# Altium footprint library Connector_Dsub.PcbLib: 104 footprints (part 5 of 7)
Each footprint in its own frame and in the unit in brackets; x right, y up, seen from the top. Pads: shape width x height; smd on the part's side, far side on the other; paste and mask are expansions set on the pad; w line width, h text height; cw(c..) or ccw(c..) is an arc to the next point about the centre after c.
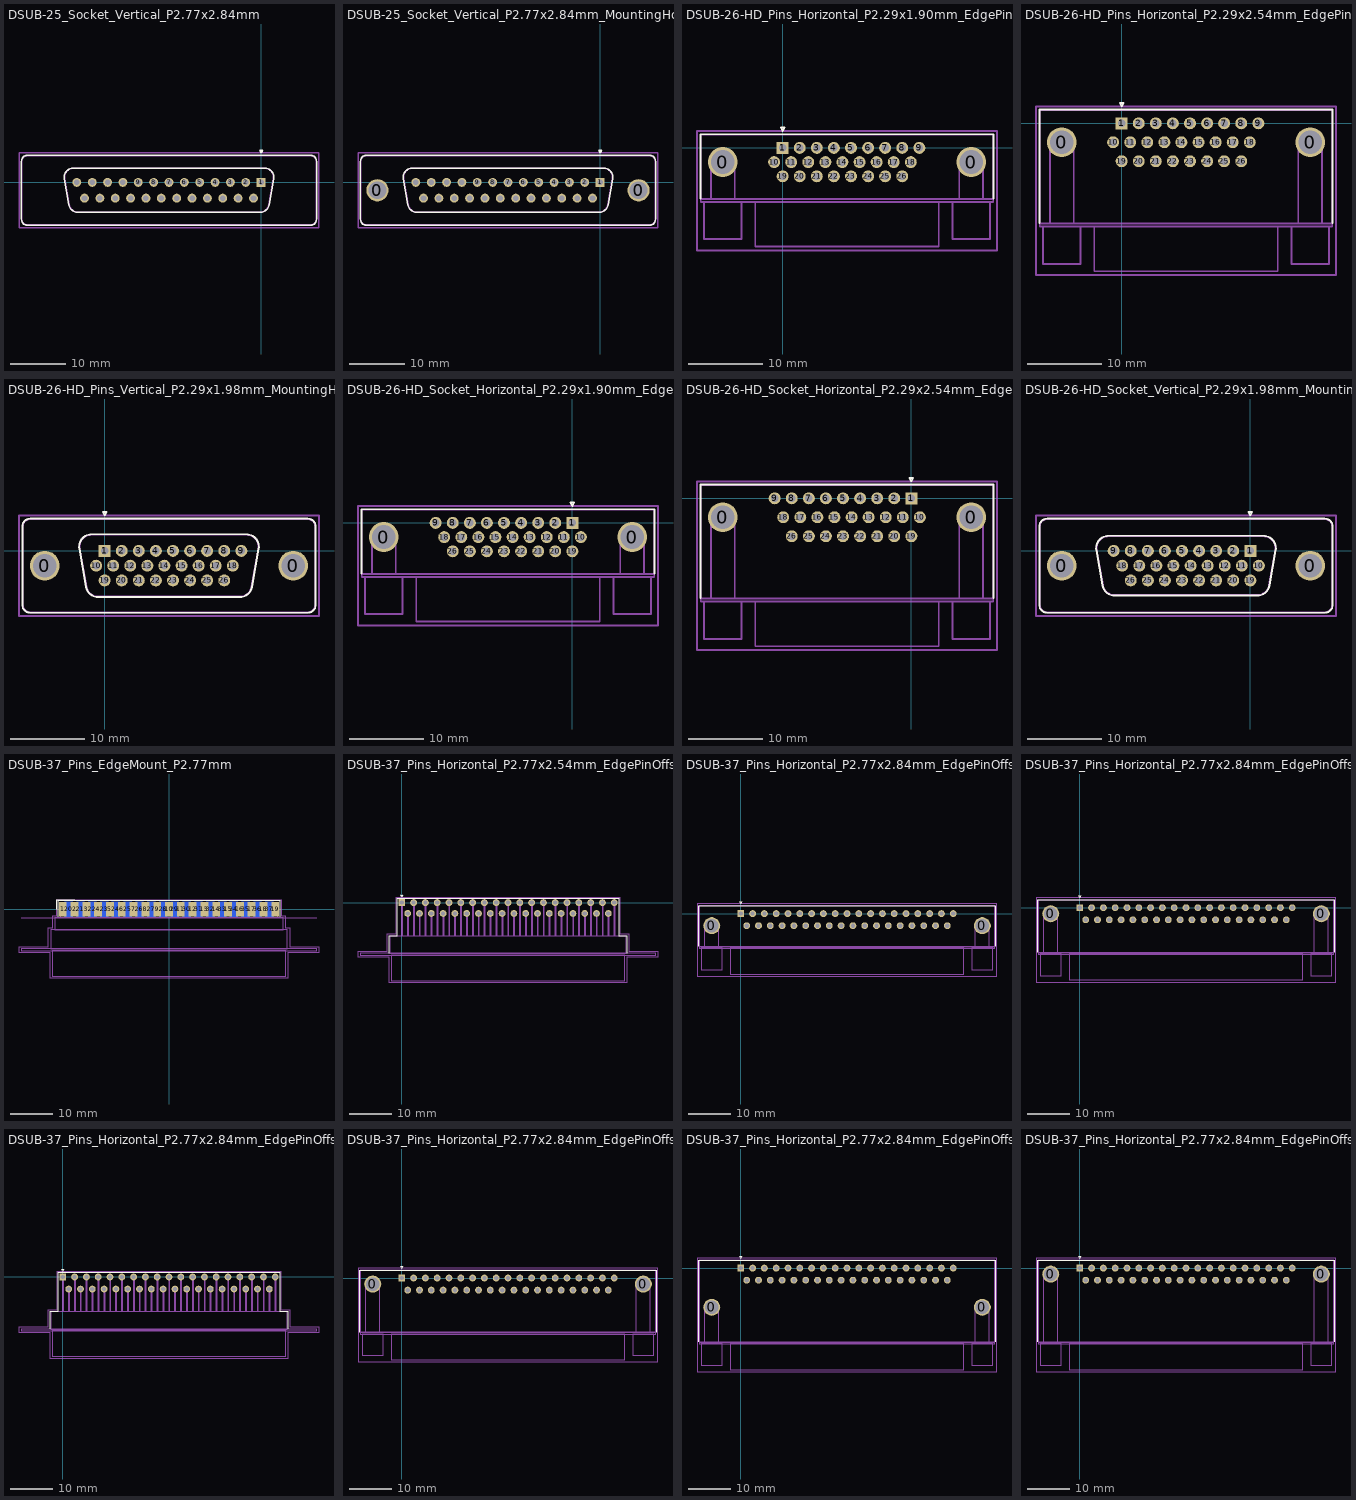
[diagram p4: the footprints below, top view; thin cyan lines are the x and y axes]

## DSUB-25_Socket_Vertical_P2.77x2.84mm [mm]
pads (25):
  rect 1.6x1.6 hole 1: 1(0,0)
  round 1.6 hole 1: 2(-2.77,0) 3(-5.54,0) 4(-8.31,0) 5(-11.08,0) 6(-13.85,0) 7(-16.62,0) 8(-19.39,0) 9(-22.16,0) 10(-24.93,0) 11(-27.7,0) 12(-30.47,0) 13(-33.24,0) 14(-1.385,-2.84) 15(-4.155,-2.84) 16(-6.925,-2.84) 17(-9.695,-2.84) 18(-12.465,-2.84) 19(-15.235,-2.84) 20(-18.005,-2.84) 21(-20.775,-2.84) 22(-23.545,-2.84) 23(-26.315,-2.84) 24(-29.085,-2.84) 25(-31.855,-2.84)
F.SilkS:
  lines w0.254: -43.23,-6.67 -43.23,3.83 cw(c-42.17,3.83) -42.17,4.89 8.93,4.89 cw(c8.93,3.83) 9.99,3.83 9.99,-6.67 cw(c8.93,-6.67) 8.93,-7.73 -42.17,-7.73 cw(c-42.17,-6.67) -43.23,-6.67 ; -35.486,0.642 -34.658,-4.058 ccw(c-33.023,-3.77) -33.023,-5.43 -0.217,-5.43 ccw(c-0.217,-3.77) 1.418,-4.058 2.246,0.642 ccw(c0.612,0.93) 0.612,2.59 -33.852,2.59 ccw(c-33.852,0.93) -35.486,0.642 ; -0.25,5.784 0.25,5.784 0,5.351 -0.25,5.784
F.Fab:
  lines w0.254: -43.17,-6.67 -43.17,3.83 cw(c-42.17,3.83) -42.17,4.83 8.93,4.83 cw(c8.93,3.83) 9.93,3.83 9.93,-6.67 cw(c8.93,-6.67) 8.93,-7.67 -42.17,-7.67 cw(c-42.17,-6.67) -43.17,-6.67 ; -35.439,0.652 -34.61,-4.048 ccw(c-33.034,-3.77) -33.034,-5.37 -0.206,-5.37 ccw(c-0.206,-3.77) 1.37,-4.048 2.199,0.652 ccw(c0.623,0.93) 0.623,2.53 -33.863,2.53 ccw(c-33.863,0.93) -35.439,0.652
  text "'.Designator'" at -20.667,-2.26 h1
F.CrtYd:
  lines w0.254: -43.67,-8.17 -43.67,5.33 10.43,5.33 10.43,-8.17 -43.67,-8.17

## DSUB-25_Socket_Vertical_P2.77x2.84mm_MountingHoles [mm]
pads (27):
  round 4 hole 3.2: 0(-40.17,-1.42) 0(6.93,-1.42)
  rect 1.6x1.6 hole 1: 1(0,0)
  round 1.6 hole 1: 2(-2.77,0) 3(-5.54,0) 4(-8.31,0) 5(-11.08,0) 6(-13.85,0) 7(-16.62,0) 8(-19.39,0) 9(-22.16,0) 10(-24.93,0) 11(-27.7,0) 12(-30.47,0) 13(-33.24,0) 14(-1.385,-2.84) 15(-4.155,-2.84) 16(-6.925,-2.84) 17(-9.695,-2.84) 18(-12.465,-2.84) 19(-15.235,-2.84) 20(-18.005,-2.84) 21(-20.775,-2.84) 22(-23.545,-2.84) 23(-26.315,-2.84) 24(-29.085,-2.84) 25(-31.855,-2.84)
F.SilkS:
  lines w0.254: -43.23,-6.67 -43.23,3.83 cw(c-42.17,3.83) -42.17,4.89 8.93,4.89 cw(c8.93,3.83) 9.99,3.83 9.99,-6.67 cw(c8.93,-6.67) 8.93,-7.73 -42.17,-7.73 cw(c-42.17,-6.67) -43.23,-6.67 ; -35.486,0.642 -34.658,-4.058 ccw(c-33.023,-3.77) -33.023,-5.43 -0.217,-5.43 ccw(c-0.217,-3.77) 1.418,-4.058 2.246,0.642 ccw(c0.612,0.93) 0.612,2.59 -33.852,2.59 ccw(c-33.852,0.93) -35.486,0.642 ; -0.25,5.784 0.25,5.784 0,5.351 -0.25,5.784
F.Fab:
  lines w0.254: -43.17,-6.67 -43.17,3.83 cw(c-42.17,3.83) -42.17,4.83 8.93,4.83 cw(c8.93,3.83) 9.93,3.83 9.93,-6.67 cw(c8.93,-6.67) 8.93,-7.67 -42.17,-7.67 cw(c-42.17,-6.67) -43.17,-6.67 ; -35.439,0.652 -34.61,-4.048 ccw(c-33.034,-3.77) -33.034,-5.37 -0.206,-5.37 ccw(c-0.206,-3.77) 1.37,-4.048 2.199,0.652 ccw(c0.623,0.93) 0.623,2.53 -33.863,2.53 ccw(c-33.863,0.93) -35.439,0.652
  text "'.Designator'" at -20.667,-2.26 h1
F.CrtYd:
  lines w0.254: -43.67,-8.17 -43.67,5.33 10.43,5.33 10.43,-8.17 -43.67,-8.17

## DSUB-26-HD_Pins_Horizontal_P2.29x1.90mm_EdgePinOffset3.03mm_Housed_MountingHolesOffset4.94mm [mm]
pads (28):
  round 4 hole 3.2: 0(-8.025,-1.89) 0(25.275,-1.89)
  rect 1.6x1.6 hole 1: 1(0,0)
  round 1.6 hole 1: 2(2.29,0) 3(4.58,0) 4(6.87,0) 5(9.16,0) 6(11.45,0) 7(13.74,0) 8(16.03,0) 9(18.32,0) 10(-1.145,-1.9) 11(1.145,-1.9) 12(3.435,-1.9) 13(5.725,-1.9) 14(8.015,-1.9) 15(10.305,-1.9) 16(12.595,-1.9) 17(14.885,-1.9) 18(17.175,-1.9) 19(0,-3.8) 20(2.29,-3.8) 21(4.58,-3.8) 22(6.87,-3.8) 23(9.16,-3.8) 24(11.45,-3.8) 25(13.74,-3.8) 26(16.03,-3.8)
F.SilkS:
  lines w0.254: -11.035,-6.77 -11.035,1.83 28.285,1.83 28.285,-6.77 ; -0.25,2.724 0.25,2.724 0,2.291 -0.25,2.724
F.Fab:
  lines w0.254: -9.625,-6.83 -9.625,-1.89 cw(c-8.025,-1.89) -6.425,-1.89 -6.425,-6.83 ; 23.675,-6.83 23.675,-1.89 cw(c25.275,-1.89) 26.875,-1.89 26.875,-6.83 ; -10.975,-6.83 -10.975,1.77 28.225,1.77 28.225,-6.83 ; -10.975,-6.83 -10.975,-7.23 28.225,-7.23 28.225,-6.83 ; -10.975,-6.83 28.225,-6.83 ; -10.975,-6.83 28.225,-6.83 ; -10.525,-12.23 -10.525,-7.23 -5.525,-7.23 -5.525,-12.23 -10.525,-12.23 ; -3.675,-13.23 -3.675,-7.23 20.925,-7.23 20.925,-13.23 -3.675,-13.23 ; 22.775,-12.23 22.775,-7.23 27.775,-7.23 27.775,-12.23 22.775,-12.23
  text "'.Designator'" at 4.578,-11.07 h1
F.CrtYd:
  lines w0.254: -11.48,-13.73 -11.48,2.27 28.73,2.27 28.73,-13.73 -11.48,-13.73

## DSUB-26-HD_Pins_Horizontal_P2.29x2.54mm_EdgePinOffset8.35mm_Housed_MountingHolesOffset10.89mm [mm]
pads (28):
  round 4 hole 3.2: 0(-8.025,-2.54) 0(25.275,-2.54)
  rect 1.6x1.6 hole 1: 1(0,0)
  round 1.6 hole 1: 2(2.29,0) 3(4.58,0) 4(6.87,0) 5(9.16,0) 6(11.45,0) 7(13.74,0) 8(16.03,0) 9(18.32,0) 10(-1.145,-2.54) 11(1.145,-2.54) 12(3.435,-2.54) 13(5.725,-2.54) 14(8.015,-2.54) 15(10.305,-2.54) 16(12.595,-2.54) 17(14.885,-2.54) 18(17.175,-2.54) 19(0,-5.08) 20(2.29,-5.08) 21(4.58,-5.08) 22(6.87,-5.08) 23(9.16,-5.08) 24(11.45,-5.08) 25(13.74,-5.08) 26(16.03,-5.08)
F.SilkS:
  lines w0.254: -11.035,-13.37 -11.035,1.83 28.285,1.83 28.285,-13.37 ; -0.25,2.724 0.25,2.724 0,2.291 -0.25,2.724
F.Fab:
  lines w0.254: -9.625,-13.43 -9.625,-2.54 cw(c-8.025,-2.54) -6.425,-2.54 -6.425,-13.43 ; 23.675,-13.43 23.675,-2.54 cw(c25.275,-2.54) 26.875,-2.54 26.875,-13.43 ; -10.975,-13.43 -10.975,1.77 28.225,1.77 28.225,-13.43 ; -10.975,-13.43 -10.975,-13.83 28.225,-13.83 28.225,-13.43 ; -10.975,-13.43 28.225,-13.43 ; -10.975,-13.43 28.225,-13.43 ; -10.525,-18.83 -10.525,-13.83 -5.525,-13.83 -5.525,-18.83 -10.525,-18.83 ; -3.675,-19.83 -3.675,-13.83 20.925,-13.83 20.925,-19.83 -3.675,-19.83 ; 22.775,-18.83 22.775,-13.83 27.775,-13.83 27.775,-18.83 22.775,-18.83
  text "'.Designator'" at 4.578,-17.67 h1
F.CrtYd:
  lines w0.254: -11.48,-20.33 -11.48,2.27 28.73,2.27 28.73,-20.33 -11.48,-20.33

## DSUB-26-HD_Pins_Vertical_P2.29x1.98mm_MountingHoles [mm]
pads (28):
  round 4 hole 3.2: 0(-8.025,-1.98) 0(25.275,-1.98)
  rect 1.6x1.6 hole 1: 1(0,0)
  round 1.6 hole 1: 2(2.29,0) 3(4.58,0) 4(6.87,0) 5(9.16,0) 6(11.45,0) 7(13.74,0) 8(16.03,0) 9(18.32,0) 10(-1.145,-1.98) 11(1.145,-1.98) 12(3.435,-1.98) 13(5.725,-1.98) 14(8.015,-1.98) 15(10.305,-1.98) 16(12.595,-1.98) 17(14.885,-1.98) 18(17.175,-1.98) 19(0,-3.96) 20(2.29,-3.96) 21(4.58,-3.96) 22(6.87,-3.96) 23(9.16,-3.96) 24(11.45,-3.96) 25(13.74,-3.96) 26(16.03,-3.96)
F.SilkS:
  lines w0.254: -11.035,-7.23 -11.035,3.27 cw(c-9.975,3.27) -9.975,4.33 27.225,4.33 cw(c27.225,3.27) 28.285,3.27 28.285,-7.23 cw(c27.225,-7.23) 27.225,-8.29 -9.975,-8.29 cw(c-9.975,-7.23) -11.035,-7.23 ; -3.391,0.282 -2.492,-4.818 ccw(c-0.857,-4.53) -0.857,-6.19 18.107,-6.19 ccw(c18.107,-4.53) 19.742,-4.818 20.641,0.282 ccw(c19.007,0.57) 19.007,2.23 -1.757,2.23 ccw(c-1.757,0.57) -3.391,0.282 ; -0.25,5.224 0.25,5.224 0,4.791 -0.25,5.224
F.Fab:
  lines w0.254: -10.975,-7.23 -10.975,3.27 cw(c-9.975,3.27) -9.975,4.27 27.225,4.27 cw(c27.225,3.27) 28.225,3.27 28.225,-7.23 cw(c27.225,-7.23) 27.225,-8.23 -9.975,-8.23 cw(c-9.975,-7.23) -10.975,-7.23 ; -3.344,0.292 -2.445,-4.808 ccw(c-0.869,-4.53) -0.869,-6.13 18.119,-6.13 ccw(c18.119,-4.53) 19.695,-4.808 20.594,0.292 ccw(c19.018,0.57) 19.018,2.17 -1.768,2.17 ccw(c-1.768,0.57) -3.344,0.292
  text "'.Designator'" at 4.578,-2.82 h1
F.CrtYd:
  lines w0.254: -11.48,-8.73 -11.48,4.77 28.73,4.77 28.73,-8.73 -11.48,-8.73

## DSUB-26-HD_Socket_Horizontal_P2.29x1.90mm_EdgePinOffset3.03mm_Housed_MountingHolesOffset4.94mm [mm]
pads (28):
  round 4 hole 3.2: 0(-25.275,-1.89) 0(8.025,-1.89)
  rect 1.6x1.6 hole 1: 1(0,0)
  round 1.6 hole 1: 2(-2.29,0) 3(-4.58,0) 4(-6.87,0) 5(-9.16,0) 6(-11.45,0) 7(-13.74,0) 8(-16.03,0) 9(-18.32,0) 10(1.145,-1.9) 11(-1.145,-1.9) 12(-3.435,-1.9) 13(-5.725,-1.9) 14(-8.015,-1.9) 15(-10.305,-1.9) 16(-12.595,-1.9) 17(-14.885,-1.9) 18(-17.175,-1.9) 19(0,-3.8) 20(-2.29,-3.8) 21(-4.58,-3.8) 22(-6.87,-3.8) 23(-9.16,-3.8) 24(-11.45,-3.8) 25(-13.74,-3.8) 26(-16.03,-3.8)
F.SilkS:
  lines w0.254: -28.285,-6.77 -28.285,1.83 11.035,1.83 11.035,-6.77 ; -0.25,2.724 0.25,2.724 0,2.291 -0.25,2.724
F.Fab:
  lines w0.254: -26.875,-6.83 -26.875,-1.89 cw(c-25.275,-1.89) -23.675,-1.89 -23.675,-6.83 ; 6.425,-6.83 6.425,-1.89 cw(c8.025,-1.89) 9.625,-1.89 9.625,-6.83 ; -28.225,-6.83 -28.225,1.77 10.975,1.77 10.975,-6.83 ; -28.225,-6.83 -28.225,-7.23 10.975,-7.23 10.975,-6.83 ; -28.225,-6.83 10.975,-6.83 ; -28.225,-6.83 10.975,-6.83 ; -27.775,-12.23 -27.775,-7.23 -22.775,-7.23 -22.775,-12.23 -27.775,-12.23 ; -20.925,-13.23 -20.925,-7.23 3.675,-7.23 3.675,-13.23 -20.925,-13.23 ; 5.525,-12.23 5.525,-7.23 10.525,-7.23 10.525,-12.23 5.525,-12.23
  text "'.Designator'" at -12.672,-11.07 h1
F.CrtYd:
  lines w0.254: -28.73,-13.73 -28.73,2.27 11.48,2.27 11.48,-13.73 -28.73,-13.73

## DSUB-26-HD_Socket_Horizontal_P2.29x2.54mm_EdgePinOffset8.35mm_Housed_MountingHolesOffset10.89mm [mm]
pads (28):
  round 4 hole 3.2: 0(-25.275,-2.54) 0(8.025,-2.54)
  rect 1.6x1.6 hole 1: 1(0,0)
  round 1.6 hole 1: 2(-2.29,0) 3(-4.58,0) 4(-6.87,0) 5(-9.16,0) 6(-11.45,0) 7(-13.74,0) 8(-16.03,0) 9(-18.32,0) 10(1.145,-2.54) 11(-1.145,-2.54) 12(-3.435,-2.54) 13(-5.725,-2.54) 14(-8.015,-2.54) 15(-10.305,-2.54) 16(-12.595,-2.54) 17(-14.885,-2.54) 18(-17.175,-2.54) 19(0,-5.08) 20(-2.29,-5.08) 21(-4.58,-5.08) 22(-6.87,-5.08) 23(-9.16,-5.08) 24(-11.45,-5.08) 25(-13.74,-5.08) 26(-16.03,-5.08)
F.SilkS:
  lines w0.254: -28.285,-13.37 -28.285,1.83 11.035,1.83 11.035,-13.37 ; -0.25,2.724 0.25,2.724 0,2.291 -0.25,2.724
F.Fab:
  lines w0.254: -26.875,-13.43 -26.875,-2.54 cw(c-25.275,-2.54) -23.675,-2.54 -23.675,-13.43 ; 6.425,-13.43 6.425,-2.54 cw(c8.025,-2.54) 9.625,-2.54 9.625,-13.43 ; -28.225,-13.43 -28.225,1.77 10.975,1.77 10.975,-13.43 ; -28.225,-13.43 -28.225,-13.83 10.975,-13.83 10.975,-13.43 ; -28.225,-13.43 10.975,-13.43 ; -28.225,-13.43 10.975,-13.43 ; -27.775,-18.83 -27.775,-13.83 -22.775,-13.83 -22.775,-18.83 -27.775,-18.83 ; -20.925,-19.83 -20.925,-13.83 3.675,-13.83 3.675,-19.83 -20.925,-19.83 ; 5.525,-18.83 5.525,-13.83 10.525,-13.83 10.525,-18.83 5.525,-18.83
  text "'.Designator'" at -12.672,-17.67 h1
F.CrtYd:
  lines w0.254: -28.73,-20.33 -28.73,2.27 11.48,2.27 11.48,-20.33 -28.73,-20.33

## DSUB-26-HD_Socket_Vertical_P2.29x1.98mm_MountingHoles [mm]
pads (28):
  round 4 hole 3.2: 0(-25.275,-1.98) 0(8.025,-1.98)
  rect 1.6x1.6 hole 1: 1(0,0)
  round 1.6 hole 1: 2(-2.29,0) 3(-4.58,0) 4(-6.87,0) 5(-9.16,0) 6(-11.45,0) 7(-13.74,0) 8(-16.03,0) 9(-18.32,0) 10(1.145,-1.98) 11(-1.145,-1.98) 12(-3.435,-1.98) 13(-5.725,-1.98) 14(-8.015,-1.98) 15(-10.305,-1.98) 16(-12.595,-1.98) 17(-14.885,-1.98) 18(-17.175,-1.98) 19(0,-3.96) 20(-2.29,-3.96) 21(-4.58,-3.96) 22(-6.87,-3.96) 23(-9.16,-3.96) 24(-11.45,-3.96) 25(-13.74,-3.96) 26(-16.03,-3.96)
F.SilkS:
  lines w0.254: -28.285,-7.23 -28.285,3.27 cw(c-27.225,3.27) -27.225,4.33 9.975,4.33 cw(c9.975,3.27) 11.035,3.27 11.035,-7.23 cw(c9.975,-7.23) 9.975,-8.29 -27.225,-8.29 cw(c-27.225,-7.23) -28.285,-7.23 ; -20.641,0.082 -19.813,-4.618 ccw(c-18.178,-4.33) -18.178,-5.99 0.928,-5.99 ccw(c0.928,-4.33) 2.563,-4.618 3.391,0.082 ccw(c1.757,0.37) 1.757,2.03 -19.007,2.03 ccw(c-19.007,0.37) -20.641,0.082 ; -0.25,5.224 0.25,5.224 0,4.791 -0.25,5.224
F.Fab:
  lines w0.254: -28.225,-7.23 -28.225,3.27 cw(c-27.225,3.27) -27.225,4.27 9.975,4.27 cw(c9.975,3.27) 10.975,3.27 10.975,-7.23 cw(c9.975,-7.23) 9.975,-8.23 -27.225,-8.23 cw(c-27.225,-7.23) -28.225,-7.23 ; -20.594,0.092 -19.765,-4.608 ccw(c-18.189,-4.33) -18.189,-5.93 0.939,-5.93 ccw(c0.939,-4.33) 2.515,-4.608 3.344,0.092 ccw(c1.768,0.37) 1.768,1.97 -19.018,1.97 ccw(c-19.018,0.37) -20.594,0.092
  text "'.Designator'" at -12.672,-2.82 h1
F.CrtYd:
  lines w0.254: -28.73,-8.73 -28.73,4.77 11.48,4.77 11.48,-8.73 -28.73,-8.73

## DSUB-37_Pins_EdgeMount_P2.77mm [mm]
pads (37):
  rect 1.847x3.48 smd: 1(-24.93,0) 2(-22.16,0) 3(-19.39,0) 4(-16.62,0) 5(-13.85,0) 6(-11.08,0) 7(-8.31,0) 8(-5.54,0) 9(-2.77,0) 10(0,0) 11(2.77,0) 12(5.54,0) 13(8.31,0) 14(11.08,0) 15(13.85,0) 16(16.62,0) 17(19.39,0) 18(22.16,0) 19(24.93,0)
  rect 1.847x3.48 smd far side: 20(-23.545,0) 21(-20.775,0) 22(-18.005,0) 23(-15.235,0) 24(-12.465,0) 25(-9.695,0) 26(-6.925,0) 27(-4.155,0) 28(-1.385,0) 29(1.385,0) 30(4.155,0) 31(6.925,0) 32(9.695,0) 33(12.465,0) 34(15.235,0) 35(18.005,0) 36(20.775,0) 37(23.545,0)
F.SilkS:
  lines w0.254: -26.353,0 -26.353,2.24 -22.16,2.24 ; -26.113,-1.74 -26.113,2 26.113,2 26.113,-1.74
F.Fab:
  lines w0.254: -34.7,-9.69 -34.7,-9.29 34.7,-9.29 34.7,-9.69 -34.7,-9.69 ; -27.8,-9.29 -27.8,-4.79 27.8,-4.79 27.8,-9.29 -27.8,-9.29 ; -27.4,-15.69 -27.4,-9.69 27.4,-9.69 27.4,-15.69 -27.4,-15.69 ; -26.8,-4.79 -26.8,-1.99 26.8,-1.99 26.8,-4.79 -26.8,-4.79 ; -25.53,-1.99 -25.53,0.91 -24.33,0.91 -24.33,-1.99 -25.53,-1.99 ; -22.76,-1.99 -22.76,0.91 -21.56,0.91 -21.56,-1.99 -22.76,-1.99 ; -19.99,-1.99 -19.99,0.91 -18.79,0.91 -18.79,-1.99 -19.99,-1.99 ; -17.22,-1.99 -17.22,0.91 -16.02,0.91 -16.02,-1.99 -17.22,-1.99 ; -14.45,-1.99 -14.45,0.91 -13.25,0.91 -13.25,-1.99 -14.45,-1.99 ; -11.68,-1.99 -11.68,0.91 -10.48,0.91 -10.48,-1.99 -11.68,-1.99 ; -8.91,-1.99 -8.91,0.91 -7.71,0.91 -7.71,-1.99 -8.91,-1.99 ; -6.14,-1.99 -6.14,0.91 -4.94,0.91 -4.94,-1.99 -6.14,-1.99 ; -3.37,-1.99 -3.37,0.91 -2.17,0.91 -2.17,-1.99 -3.37,-1.99 ; -0.6,-1.99 -0.6,0.91 0.6,0.91 0.6,-1.99 -0.6,-1.99 ; 2.17,-1.99 2.17,0.91 3.37,0.91 3.37,-1.99 2.17,-1.99 ; 4.94,-1.99 4.94,0.91 6.14,0.91 6.14,-1.99 4.94,-1.99 ; 7.71,-1.99 7.71,0.91 8.91,0.91 8.91,-1.99 7.71,-1.99 ; 10.48,-1.99 10.48,0.91 11.68,0.91 11.68,-1.99 10.48,-1.99 ; 13.25,-1.99 13.25,0.91 14.45,0.91 14.45,-1.99 13.25,-1.99 ; 16.02,-1.99 16.02,0.91 17.22,0.91 17.22,-1.99 16.02,-1.99 ; 18.79,-1.99 18.79,0.91 19.99,0.91 19.99,-1.99 18.79,-1.99 ; 21.56,-1.99 21.56,0.91 22.76,0.91 22.76,-1.99 21.56,-1.99 ; 24.33,-1.99 24.33,0.91 25.53,0.91 25.53,-1.99 24.33,-1.99
  text "'.Designator'" at -4.047,-4.23 h1
B.Fab:
  lines w0.254: -24.145,-1.99 -24.145,0.91 -22.945,0.91 -22.945,-1.99 -24.145,-1.99 ; -21.375,-1.99 -21.375,0.91 -20.175,0.91 -20.175,-1.99 -21.375,-1.99 ; -18.605,-1.99 -18.605,0.91 -17.405,0.91 -17.405,-1.99 -18.605,-1.99 ; -15.835,-1.99 -15.835,0.91 -14.635,0.91 -14.635,-1.99 -15.835,-1.99 ; -13.065,-1.99 -13.065,0.91 -11.865,0.91 -11.865,-1.99 -13.065,-1.99 ; -10.295,-1.99 -10.295,0.91 -9.095,0.91 -9.095,-1.99 -10.295,-1.99 ; -7.525,-1.99 -7.525,0.91 -6.325,0.91 -6.325,-1.99 -7.525,-1.99 ; -4.755,-1.99 -4.755,0.91 -3.555,0.91 -3.555,-1.99 -4.755,-1.99 ; -1.985,-1.99 -1.985,0.91 -0.785,0.91 -0.785,-1.99 -1.985,-1.99 ; 0.785,-1.99 0.785,0.91 1.985,0.91 1.985,-1.99 0.785,-1.99 ; 3.555,-1.99 3.555,0.91 4.755,0.91 4.755,-1.99 3.555,-1.99 ; 6.325,-1.99 6.325,0.91 7.525,0.91 7.525,-1.99 6.325,-1.99 ; 9.095,-1.99 9.095,0.91 10.295,0.91 10.295,-1.99 9.095,-1.99 ; 11.865,-1.99 11.865,0.91 13.065,0.91 13.065,-1.99 11.865,-1.99 ; 14.635,-1.99 14.635,0.91 15.835,0.91 15.835,-1.99 14.635,-1.99 ; 17.405,-1.99 17.405,0.91 18.605,0.91 18.605,-1.99 17.405,-1.99 ; 20.175,-1.99 20.175,0.91 21.375,0.91 21.375,-1.99 20.175,-1.99 ; 22.945,-1.99 22.945,0.91 24.145,0.91 24.145,-1.99 22.945,-1.99
F.CrtYd:
  lines w0.254: -35.2,-10.19 -35.2,-8.79 -28.3,-8.79 -28.3,-4.29 -27.3,-4.29 -27.3,-1.49 -26.36,-1.49 -26.36,2.25 26.36,2.25 26.36,-1.49 27.3,-1.49 27.3,-4.29 28.3,-4.29 28.3,-8.79 35.2,-8.79 35.2,-10.19 27.9,-10.19 27.9,-16.19 -27.9,-16.19 -27.9,-10.19 -35.2,-10.19
Dwgs.User:
  lines w0.254: -34.7,-1.99 34.7,-1.99
  text "PCB edge" at -31.423,-1.732 h0.5

## DSUB-37_Pins_Horizontal_P2.77x2.54mm_EdgePinOffset9.40mm [mm]
pads (37):
  rect 1.6x1.6 hole 1: 1(0,0)
  round 1.6 hole 1: 2(2.77,0) 3(5.54,0) 4(8.31,0) 5(11.08,0) 6(13.85,0) 7(16.62,0) 8(19.39,0) 9(22.16,0) 10(24.93,0) 11(27.7,0) 12(30.47,0) 13(33.24,0) 14(36.01,0) 15(38.78,0) 16(41.55,0) 17(44.32,0) 18(47.09,0) 19(49.86,0) 20(1.385,-2.54) 21(4.155,-2.54) 22(6.925,-2.54) 23(9.695,-2.54) 24(12.465,-2.54) 25(15.235,-2.54) 26(18.005,-2.54) 27(20.775,-2.54) 28(23.545,-2.54) 29(26.315,-2.54) 30(29.085,-2.54) 31(31.855,-2.54) 32(34.625,-2.54) 33(37.395,-2.54) 34(40.165,-2.54) 35(42.935,-2.54) 36(45.705,-2.54) 37(48.475,-2.54)
F.SilkS:
  lines w0.254: -2.93,-11.88 -2.93,-7.78 -1.06,-7.78 -1.06,1.06 50.92,1.06 50.92,-7.78 52.79,-7.78 52.79,-11.88 ; -0.25,1.754 0.25,1.754 0,1.321 -0.25,1.754
F.Fab:
  lines w0.254: -0.1,-7.84 -0.1,0 ; 0,-7.84 0,0 ; 0.1,-7.84 0.1,0 ; 1.285,-7.84 1.285,-2.54 ; 1.385,-7.84 1.385,-2.54 ; 1.485,-7.84 1.485,-2.54 ; 2.67,-7.84 2.67,0 ; 2.77,-7.84 2.77,0 ; 2.87,-7.84 2.87,0 ; 4.055,-7.84 4.055,-2.54 ; 4.155,-7.84 4.155,-2.54 ; 4.255,-7.84 4.255,-2.54 ; 5.44,-7.84 5.44,0 ; 5.54,-7.84 5.54,0 ; 5.64,-7.84 5.64,0 ; 6.825,-7.84 6.825,-2.54 ; 6.925,-7.84 6.925,-2.54 ; 7.025,-7.84 7.025,-2.54 ; 8.21,-7.84 8.21,0 ; 8.31,-7.84 8.31,0 ; 8.41,-7.84 8.41,0 ; 9.595,-7.84 9.595,-2.54 ; 9.695,-7.84 9.695,-2.54 ; 9.795,-7.84 9.795,-2.54 ; 10.98,-7.84 10.98,0 ; 11.08,-7.84 11.08,0 ; 11.18,-7.84 11.18,0 ; 12.365,-7.84 12.365,-2.54 ; 12.465,-7.84 12.465,-2.54 ; 12.565,-7.84 12.565,-2.54 ; 13.75,-7.84 13.75,0 ; 13.85,-7.84 13.85,0 ; 13.95,-7.84 13.95,0 ; 15.135,-7.84 15.135,-2.54 ; 15.235,-7.84 15.235,-2.54 ; 15.335,-7.84 15.335,-2.54 ; 16.52,-7.84 16.52,0 ; 16.62,-7.84 16.62,0 ; 16.72,-7.84 16.72,0 ; 17.905,-7.84 17.905,-2.54 ; 18.005,-7.84 18.005,-2.54 ; 18.105,-7.84 18.105,-2.54 ; 19.29,-7.84 19.29,0 ; 19.39,-7.84 19.39,0 ; 19.49,-7.84 19.49,0 ; 20.675,-7.84 20.675,-2.54 ; 20.775,-7.84 20.775,-2.54 ; 20.875,-7.84 20.875,-2.54 ; 22.06,-7.84 22.06,0 ; 22.16,-7.84 22.16,0 ; 22.26,-7.84 22.26,0 ; 23.445,-7.84 23.445,-2.54 ; 23.545,-7.84 23.545,-2.54 ; 23.645,-7.84 23.645,-2.54 ; 24.83,-7.84 24.83,0 ; 24.93,-7.84 24.93,0 ; 25.03,-7.84 25.03,0 ; 26.215,-7.84 26.215,-2.54 ; 26.315,-7.84 26.315,-2.54 ; 26.415,-7.84 26.415,-2.54 ; 27.6,-7.84 27.6,0 ; 27.7,-7.84 27.7,0 ; 27.8,-7.84 27.8,0 ; 28.985,-7.84 28.985,-2.54 ; 29.085,-7.84 29.085,-2.54 ; 29.185,-7.84 29.185,-2.54 ; 30.37,-7.84 30.37,0 ; 30.47,-7.84 30.47,0 ; 30.57,-7.84 30.57,0 ; 31.755,-7.84 31.755,-2.54 ; 31.855,-7.84 31.855,-2.54 ; 31.955,-7.84 31.955,-2.54 ; 33.14,-7.84 33.14,0 ; 33.24,-7.84 33.24,0 ; 33.34,-7.84 33.34,0 ; 34.525,-7.84 34.525,-2.54 ; 34.625,-7.84 34.625,-2.54 ; 34.725,-7.84 34.725,-2.54 ; 35.91,-7.84 35.91,0 ; 36.01,-7.84 36.01,0 ; 36.11,-7.84 36.11,0 ; 37.295,-7.84 37.295,-2.54 ; 37.395,-7.84 37.395,-2.54 ; 37.495,-7.84 37.495,-2.54 ; 38.68,-7.84 38.68,0 ; 38.78,-7.84 38.78,0 ; 38.88,-7.84 38.88,0 ; 40.065,-7.84 40.065,-2.54 ; 40.165,-7.84 40.165,-2.54 ; 40.265,-7.84 40.265,-2.54 ; 41.45,-7.84 41.45,0 ; 41.55,-7.84 41.55,0 ; 41.65,-7.84 41.65,0 ; 42.835,-7.84 42.835,-2.54 ; 42.935,-7.84 42.935,-2.54 ; 43.035,-7.84 43.035,-2.54 ; 44.22,-7.84 44.22,0 ; 44.32,-7.84 44.32,0 ; 44.42,-7.84 44.42,0 ; 45.605,-7.84 45.605,-2.54 ; 45.705,-7.84 45.705,-2.54 ; 45.805,-7.84 45.805,-2.54 ; 46.99,-7.84 46.99,0 ; 47.09,-7.84 47.09,0 ; 47.19,-7.84 47.19,0 ; 48.375,-7.84 48.375,-2.54 ; 48.475,-7.84 48.475,-2.54 ; 48.575,-7.84 48.575,-2.54 ; 49.76,-7.84 49.76,0 ; 49.86,-7.84 49.86,0 ; 49.96,-7.84 49.96,0 ; -9.77,-12.34 -9.77,-11.94 59.63,-11.94 59.63,-12.34 -9.77,-12.34 ; -2.87,-11.94 -2.87,-7.84 52.73,-7.84 52.73,-11.94 -2.87,-11.94 ; -2.47,-18.34 -2.47,-12.34 52.33,-12.34 52.33,-18.34 -2.47,-18.34
  text "'.Designator'" at 20.883,-16.18 h1
F.CrtYd:
  lines w0.254: -10.28,-12.84 -10.28,-11.44 -3.37,-11.44 -3.37,-7.34 -1.3,-7.34 -1.3,1.31 51.16,1.31 51.16,-7.34 53.23,-7.34 53.23,-11.44 60.13,-11.44 60.13,-12.84 52.83,-12.84 52.83,-18.84 -2.97,-18.84 -2.97,-12.84 -10.28,-12.84

## DSUB-37_Pins_Horizontal_P2.77x2.84mm_EdgePinOffset4.94mm_Housed_MountingHolesOffset4.94mm [mm]
pads (39):
  round 4 hole 3.2: 0(-6.82,-2.84) 0(56.68,-2.84)
  rect 1.6x1.6 hole 1: 1(0,0)
  round 1.6 hole 1: 2(2.77,0) 3(5.54,0) 4(8.31,0) 5(11.08,0) 6(13.85,0) 7(16.62,0) 8(19.39,0) 9(22.16,0) 10(24.93,0) 11(27.7,0) 12(30.47,0) 13(33.24,0) 14(36.01,0) 15(38.78,0) 16(41.55,0) 17(44.32,0) 18(47.09,0) 19(49.86,0) 20(1.385,-2.84) 21(4.155,-2.84) 22(6.925,-2.84) 23(9.695,-2.84) 24(12.465,-2.84) 25(15.235,-2.84) 26(18.005,-2.84) 27(20.775,-2.84) 28(23.545,-2.84) 29(26.315,-2.84) 30(29.085,-2.84) 31(31.855,-2.84) 32(34.625,-2.84) 33(37.395,-2.84) 34(40.165,-2.84) 35(42.935,-2.84) 36(45.705,-2.84) 37(48.475,-2.84)
F.SilkS:
  lines w0.254: -9.83,-7.72 -9.83,1.86 59.69,1.86 59.69,-7.72 ; -0.25,2.754 0.25,2.754 0,2.321 -0.25,2.754
F.Fab:
  lines w0.254: -8.42,-7.78 -8.42,-2.84 cw(c-6.82,-2.84) -5.22,-2.84 -5.22,-7.78 ; 55.08,-7.78 55.08,-2.84 cw(c56.68,-2.84) 58.28,-2.84 58.28,-7.78 ; -9.77,-7.78 -9.77,1.8 59.63,1.8 59.63,-7.78 ; -9.77,-7.78 -9.77,-8.18 59.63,-8.18 59.63,-7.78 ; -9.77,-7.78 59.63,-7.78 ; -9.77,-7.78 59.63,-7.78 ; -9.32,-13.18 -9.32,-8.18 -4.32,-8.18 -4.32,-13.18 -9.32,-13.18 ; -2.47,-14.18 -2.47,-8.18 52.33,-8.18 52.33,-14.18 -2.47,-14.18 ; 54.18,-13.18 54.18,-8.18 59.18,-8.18 59.18,-13.18 54.18,-13.18
  text "'.Designator'" at 20.883,-12.02 h1
F.CrtYd:
  lines w0.254: -10.28,-14.68 -10.28,2.31 60.13,2.31 60.13,-14.68 -10.28,-14.68

## DSUB-37_Pins_Horizontal_P2.77x2.84mm_EdgePinOffset7.70mm_Housed_MountingHolesOffset9.12mm [mm]
pads (39):
  round 4 hole 3.2: 0(-6.82,-1.42) 0(56.68,-1.42)
  rect 1.6x1.6 hole 1: 1(0,0)
  round 1.6 hole 1: 2(2.77,0) 3(5.54,0) 4(8.31,0) 5(11.08,0) 6(13.85,0) 7(16.62,0) 8(19.39,0) 9(22.16,0) 10(24.93,0) 11(27.7,0) 12(30.47,0) 13(33.24,0) 14(36.01,0) 15(38.78,0) 16(41.55,0) 17(44.32,0) 18(47.09,0) 19(49.86,0) 20(1.385,-2.84) 21(4.155,-2.84) 22(6.925,-2.84) 23(9.695,-2.84) 24(12.465,-2.84) 25(15.235,-2.84) 26(18.005,-2.84) 27(20.775,-2.84) 28(23.545,-2.84) 29(26.315,-2.84) 30(29.085,-2.84) 31(31.855,-2.84) 32(34.625,-2.84) 33(37.395,-2.84) 34(40.165,-2.84) 35(42.935,-2.84) 36(45.705,-2.84) 37(48.475,-2.84)
F.SilkS:
  lines w0.254: -9.83,-10.48 -9.83,1.86 59.69,1.86 59.69,-10.48 ; -0.25,2.754 0.25,2.754 0,2.321 -0.25,2.754
F.Fab:
  lines w0.254: -8.42,-10.54 -8.42,-1.42 cw(c-6.82,-1.42) -5.22,-1.42 -5.22,-10.54 ; 55.08,-10.54 55.08,-1.42 cw(c56.68,-1.42) 58.28,-1.42 58.28,-10.54 ; -9.77,-10.54 -9.77,1.8 59.63,1.8 59.63,-10.54 ; -9.77,-10.54 -9.77,-10.94 59.63,-10.94 59.63,-10.54 ; -9.77,-10.54 59.63,-10.54 ; -9.77,-10.54 59.63,-10.54 ; -9.32,-15.94 -9.32,-10.94 -4.32,-10.94 -4.32,-15.94 -9.32,-15.94 ; -2.47,-16.94 -2.47,-10.94 52.33,-10.94 52.33,-16.94 -2.47,-16.94 ; 54.18,-15.94 54.18,-10.94 59.18,-10.94 59.18,-15.94 54.18,-15.94
  text "'.Designator'" at 20.883,-14.78 h1
F.CrtYd:
  lines w0.254: -10.28,-17.44 -10.28,2.31 60.13,2.31 60.13,-17.44 -10.28,-17.44

## DSUB-37_Pins_Horizontal_P2.77x2.84mm_EdgePinOffset9.40mm [mm]
pads (37):
  rect 1.6x1.6 hole 1: 1(0,0)
  round 1.6 hole 1: 2(2.77,0) 3(5.54,0) 4(8.31,0) 5(11.08,0) 6(13.85,0) 7(16.62,0) 8(19.39,0) 9(22.16,0) 10(24.93,0) 11(27.7,0) 12(30.47,0) 13(33.24,0) 14(36.01,0) 15(38.78,0) 16(41.55,0) 17(44.32,0) 18(47.09,0) 19(49.86,0) 20(1.385,-2.84) 21(4.155,-2.84) 22(6.925,-2.84) 23(9.695,-2.84) 24(12.465,-2.84) 25(15.235,-2.84) 26(18.005,-2.84) 27(20.775,-2.84) 28(23.545,-2.84) 29(26.315,-2.84) 30(29.085,-2.84) 31(31.855,-2.84) 32(34.625,-2.84) 33(37.395,-2.84) 34(40.165,-2.84) 35(42.935,-2.84) 36(45.705,-2.84) 37(48.475,-2.84)
F.SilkS:
  lines w0.254: -2.93,-12.18 -2.93,-8.08 -1.06,-8.08 -1.06,1.06 50.92,1.06 50.92,-8.08 52.79,-8.08 52.79,-12.18 ; -0.25,1.754 0.25,1.754 0,1.321 -0.25,1.754
F.Fab:
  lines w0.254: -0.1,-8.14 -0.1,0 ; 0,-8.14 0,0 ; 0.1,-8.14 0.1,0 ; 1.285,-8.14 1.285,-2.84 ; 1.385,-8.14 1.385,-2.84 ; 1.485,-8.14 1.485,-2.84 ; 2.67,-8.14 2.67,0 ; 2.77,-8.14 2.77,0 ; 2.87,-8.14 2.87,0 ; 4.055,-8.14 4.055,-2.84 ; 4.155,-8.14 4.155,-2.84 ; 4.255,-8.14 4.255,-2.84 ; 5.44,-8.14 5.44,0 ; 5.54,-8.14 5.54,0 ; 5.64,-8.14 5.64,0 ; 6.825,-8.14 6.825,-2.84 ; 6.925,-8.14 6.925,-2.84 ; 7.025,-8.14 7.025,-2.84 ; 8.21,-8.14 8.21,0 ; 8.31,-8.14 8.31,0 ; 8.41,-8.14 8.41,0 ; 9.595,-8.14 9.595,-2.84 ; 9.695,-8.14 9.695,-2.84 ; 9.795,-8.14 9.795,-2.84 ; 10.98,-8.14 10.98,0 ; 11.08,-8.14 11.08,0 ; 11.18,-8.14 11.18,0 ; 12.365,-8.14 12.365,-2.84 ; 12.465,-8.14 12.465,-2.84 ; 12.565,-8.14 12.565,-2.84 ; 13.75,-8.14 13.75,0 ; 13.85,-8.14 13.85,0 ; 13.95,-8.14 13.95,0 ; 15.135,-8.14 15.135,-2.84 ; 15.235,-8.14 15.235,-2.84 ; 15.335,-8.14 15.335,-2.84 ; 16.52,-8.14 16.52,0 ; 16.62,-8.14 16.62,0 ; 16.72,-8.14 16.72,0 ; 17.905,-8.14 17.905,-2.84 ; 18.005,-8.14 18.005,-2.84 ; 18.105,-8.14 18.105,-2.84 ; 19.29,-8.14 19.29,0 ; 19.39,-8.14 19.39,0 ; 19.49,-8.14 19.49,0 ; 20.675,-8.14 20.675,-2.84 ; 20.775,-8.14 20.775,-2.84 ; 20.875,-8.14 20.875,-2.84 ; 22.06,-8.14 22.06,0 ; 22.16,-8.14 22.16,0 ; 22.26,-8.14 22.26,0 ; 23.445,-8.14 23.445,-2.84 ; 23.545,-8.14 23.545,-2.84 ; 23.645,-8.14 23.645,-2.84 ; 24.83,-8.14 24.83,0 ; 24.93,-8.14 24.93,0 ; 25.03,-8.14 25.03,0 ; 26.215,-8.14 26.215,-2.84 ; 26.315,-8.14 26.315,-2.84 ; 26.415,-8.14 26.415,-2.84 ; 27.6,-8.14 27.6,0 ; 27.7,-8.14 27.7,0 ; 27.8,-8.14 27.8,0 ; 28.985,-8.14 28.985,-2.84 ; 29.085,-8.14 29.085,-2.84 ; 29.185,-8.14 29.185,-2.84 ; 30.37,-8.14 30.37,0 ; 30.47,-8.14 30.47,0 ; 30.57,-8.14 30.57,0 ; 31.755,-8.14 31.755,-2.84 ; 31.855,-8.14 31.855,-2.84 ; 31.955,-8.14 31.955,-2.84 ; 33.14,-8.14 33.14,0 ; 33.24,-8.14 33.24,0 ; 33.34,-8.14 33.34,0 ; 34.525,-8.14 34.525,-2.84 ; 34.625,-8.14 34.625,-2.84 ; 34.725,-8.14 34.725,-2.84 ; 35.91,-8.14 35.91,0 ; 36.01,-8.14 36.01,0 ; 36.11,-8.14 36.11,0 ; 37.295,-8.14 37.295,-2.84 ; 37.395,-8.14 37.395,-2.84 ; 37.495,-8.14 37.495,-2.84 ; 38.68,-8.14 38.68,0 ; 38.78,-8.14 38.78,0 ; 38.88,-8.14 38.88,0 ; 40.065,-8.14 40.065,-2.84 ; 40.165,-8.14 40.165,-2.84 ; 40.265,-8.14 40.265,-2.84 ; 41.45,-8.14 41.45,0 ; 41.55,-8.14 41.55,0 ; 41.65,-8.14 41.65,0 ; 42.835,-8.14 42.835,-2.84 ; 42.935,-8.14 42.935,-2.84 ; 43.035,-8.14 43.035,-2.84 ; 44.22,-8.14 44.22,0 ; 44.32,-8.14 44.32,0 ; 44.42,-8.14 44.42,0 ; 45.605,-8.14 45.605,-2.84 ; 45.705,-8.14 45.705,-2.84 ; 45.805,-8.14 45.805,-2.84 ; 46.99,-8.14 46.99,0 ; 47.09,-8.14 47.09,0 ; 47.19,-8.14 47.19,0 ; 48.375,-8.14 48.375,-2.84 ; 48.475,-8.14 48.475,-2.84 ; 48.575,-8.14 48.575,-2.84 ; 49.76,-8.14 49.76,0 ; 49.86,-8.14 49.86,0 ; 49.96,-8.14 49.96,0 ; -9.77,-12.64 -9.77,-12.24 59.63,-12.24 59.63,-12.64 -9.77,-12.64 ; -2.87,-12.24 -2.87,-8.14 52.73,-8.14 52.73,-12.24 -2.87,-12.24 ; -2.47,-18.64 -2.47,-12.64 52.33,-12.64 52.33,-18.64 -2.47,-18.64
  text "'.Designator'" at 20.883,-16.48 h1
F.CrtYd:
  lines w0.254: -10.28,-13.14 -10.28,-11.74 -3.37,-11.74 -3.37,-7.64 -1.3,-7.64 -1.3,1.31 51.16,1.31 51.16,-7.64 53.23,-7.64 53.23,-11.74 60.13,-11.74 60.13,-13.14 52.83,-13.14 52.83,-19.14 -2.97,-19.14 -2.97,-13.14 -10.28,-13.14

## DSUB-37_Pins_Horizontal_P2.77x2.84mm_EdgePinOffset9.90mm_Housed_MountingHolesOffset11.32mm [mm]
pads (39):
  round 4 hole 3.2: 0(-6.82,-1.42) 0(56.68,-1.42)
  rect 1.6x1.6 hole 1: 1(0,0)
  round 1.6 hole 1: 2(2.77,0) 3(5.54,0) 4(8.31,0) 5(11.08,0) 6(13.85,0) 7(16.62,0) 8(19.39,0) 9(22.16,0) 10(24.93,0) 11(27.7,0) 12(30.47,0) 13(33.24,0) 14(36.01,0) 15(38.78,0) 16(41.55,0) 17(44.32,0) 18(47.09,0) 19(49.86,0) 20(1.385,-2.84) 21(4.155,-2.84) 22(6.925,-2.84) 23(9.695,-2.84) 24(12.465,-2.84) 25(15.235,-2.84) 26(18.005,-2.84) 27(20.775,-2.84) 28(23.545,-2.84) 29(26.315,-2.84) 30(29.085,-2.84) 31(31.855,-2.84) 32(34.625,-2.84) 33(37.395,-2.84) 34(40.165,-2.84) 35(42.935,-2.84) 36(45.705,-2.84) 37(48.475,-2.84)
F.SilkS:
  lines w0.254: -9.83,-12.68 -9.83,1.86 59.69,1.86 59.69,-12.68 ; -0.25,2.754 0.25,2.754 0,2.321 -0.25,2.754
F.Fab:
  lines w0.254: -8.42,-12.74 -8.42,-1.42 cw(c-6.82,-1.42) -5.22,-1.42 -5.22,-12.74 ; 55.08,-12.74 55.08,-1.42 cw(c56.68,-1.42) 58.28,-1.42 58.28,-12.74 ; -9.77,-12.74 -9.77,1.8 59.63,1.8 59.63,-12.74 ; -9.77,-12.74 -9.77,-13.14 59.63,-13.14 59.63,-12.74 ; -9.77,-12.74 59.63,-12.74 ; -9.77,-12.74 59.63,-12.74 ; -9.32,-18.14 -9.32,-13.14 -4.32,-13.14 -4.32,-18.14 -9.32,-18.14 ; -2.47,-19.14 -2.47,-13.14 52.33,-13.14 52.33,-19.14 -2.47,-19.14 ; 54.18,-18.14 54.18,-13.14 59.18,-13.14 59.18,-18.14 54.18,-18.14
  text "'.Designator'" at 20.883,-16.98 h1
F.CrtYd:
  lines w0.254: -10.28,-19.64 -10.28,2.31 60.13,2.31 60.13,-19.64 -10.28,-19.64

## DSUB-37_Pins_Horizontal_P2.77x2.84mm_EdgePinOffset14.56mm_Housed_MountingHolesOffset8.20mm [mm]
pads (39):
  round 4 hole 3.2: 0(-6.82,-9.2) 0(56.68,-9.2)
  rect 1.6x1.6 hole 1: 1(0,0)
  round 1.6 hole 1: 2(2.77,0) 3(5.54,0) 4(8.31,0) 5(11.08,0) 6(13.85,0) 7(16.62,0) 8(19.39,0) 9(22.16,0) 10(24.93,0) 11(27.7,0) 12(30.47,0) 13(33.24,0) 14(36.01,0) 15(38.78,0) 16(41.55,0) 17(44.32,0) 18(47.09,0) 19(49.86,0) 20(1.385,-2.84) 21(4.155,-2.84) 22(6.925,-2.84) 23(9.695,-2.84) 24(12.465,-2.84) 25(15.235,-2.84) 26(18.005,-2.84) 27(20.775,-2.84) 28(23.545,-2.84) 29(26.315,-2.84) 30(29.085,-2.84) 31(31.855,-2.84) 32(34.625,-2.84) 33(37.395,-2.84) 34(40.165,-2.84) 35(42.935,-2.84) 36(45.705,-2.84) 37(48.475,-2.84)
F.SilkS:
  lines w0.254: -9.83,-17.34 -9.83,1.86 59.69,1.86 59.69,-17.34 ; -0.25,2.754 0.25,2.754 0,2.321 -0.25,2.754
F.Fab:
  lines w0.254: -8.42,-17.4 -8.42,-9.2 cw(c-6.82,-9.2) -5.22,-9.2 -5.22,-17.4 ; 55.08,-17.4 55.08,-9.2 cw(c56.68,-9.2) 58.28,-9.2 58.28,-17.4 ; -9.77,-17.4 -9.77,1.8 59.63,1.8 59.63,-17.4 ; -9.77,-17.4 -9.77,-17.8 59.63,-17.8 59.63,-17.4 ; -9.77,-17.4 59.63,-17.4 ; -9.77,-17.4 59.63,-17.4 ; -9.32,-22.8 -9.32,-17.8 -4.32,-17.8 -4.32,-22.8 -9.32,-22.8 ; -2.47,-23.8 -2.47,-17.8 52.33,-17.8 52.33,-23.8 -2.47,-23.8 ; 54.18,-22.8 54.18,-17.8 59.18,-17.8 59.18,-22.8 54.18,-22.8
  text "'.Designator'" at 20.883,-21.64 h1
F.CrtYd:
  lines w0.254: -10.28,-24.3 -10.28,2.3 60.13,2.3 60.13,-24.3 -10.28,-24.3

## DSUB-37_Pins_Horizontal_P2.77x2.84mm_EdgePinOffset14.56mm_Housed_MountingHolesOffset15.98mm [mm]
pads (39):
  round 4 hole 3.2: 0(-6.82,-1.42) 0(56.68,-1.42)
  rect 1.6x1.6 hole 1: 1(0,0)
  round 1.6 hole 1: 2(2.77,0) 3(5.54,0) 4(8.31,0) 5(11.08,0) 6(13.85,0) 7(16.62,0) 8(19.39,0) 9(22.16,0) 10(24.93,0) 11(27.7,0) 12(30.47,0) 13(33.24,0) 14(36.01,0) 15(38.78,0) 16(41.55,0) 17(44.32,0) 18(47.09,0) 19(49.86,0) 20(1.385,-2.84) 21(4.155,-2.84) 22(6.925,-2.84) 23(9.695,-2.84) 24(12.465,-2.84) 25(15.235,-2.84) 26(18.005,-2.84) 27(20.775,-2.84) 28(23.545,-2.84) 29(26.315,-2.84) 30(29.085,-2.84) 31(31.855,-2.84) 32(34.625,-2.84) 33(37.395,-2.84) 34(40.165,-2.84) 35(42.935,-2.84) 36(45.705,-2.84) 37(48.475,-2.84)
F.SilkS:
  lines w0.254: -9.83,-17.34 -9.83,1.86 59.69,1.86 59.69,-17.34 ; -0.25,2.754 0.25,2.754 0,2.321 -0.25,2.754
F.Fab:
  lines w0.254: -8.42,-17.4 -8.42,-1.42 cw(c-6.82,-1.42) -5.22,-1.42 -5.22,-17.4 ; 55.08,-17.4 55.08,-1.42 cw(c56.68,-1.42) 58.28,-1.42 58.28,-17.4 ; -9.77,-17.4 -9.77,1.8 59.63,1.8 59.63,-17.4 ; -9.77,-17.4 -9.77,-17.8 59.63,-17.8 59.63,-17.4 ; -9.77,-17.4 59.63,-17.4 ; -9.77,-17.4 59.63,-17.4 ; -9.32,-22.8 -9.32,-17.8 -4.32,-17.8 -4.32,-22.8 -9.32,-22.8 ; -2.47,-23.8 -2.47,-17.8 52.33,-17.8 52.33,-23.8 -2.47,-23.8 ; 54.18,-22.8 54.18,-17.8 59.18,-17.8 59.18,-22.8 54.18,-22.8
  text "'.Designator'" at 20.883,-21.64 h1
F.CrtYd:
  lines w0.254: -10.28,-24.3 -10.28,2.3 60.13,2.3 60.13,-24.3 -10.28,-24.3